# EAGLE library part AD8220 (library ad8220)
JFET Input Instrumentation Amplifier with JFET Input Instrumentation Amplifier with Rail-to-Rail Output in MSOP Package
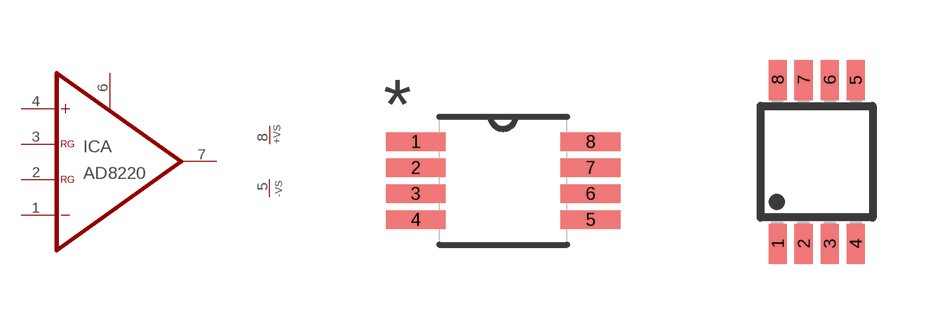
[diagram p0: symbol with the pads of SOP65P490X110-8N; footprints SOP65P490X110-8N, MSOP8]

Designator prefix IC; gates A=OP_INST PWR=PWR

## AD8220ARMZ (MPN: AD8220ARMZ; OC_FARNELL: 1274225; OC_NEWARK: 31M4503; PACKAGE: MSOP-8; SUPPLIER: Analog Devices)  [SOP65P490X110-8N]
1  A:-IN  in
2  A:RG2
3  A:RG1
4  A:+IN  in
5  PWR:-VS  pwr
6  A:REF
7  A:OUT  out
8  PWR:+VS  pwr

## AD8220  [MSOP8]
Pads as for SOP65P490X110-8N

## Footprint SOP65P490X110-8N (pad centres in mm)
smd 1.499 x 0.457: 1 -2.184,0.975; 2 -2.184,0.325; 3 -2.184,-0.325; 4 -2.184,-0.975; 5 2.184,-0.975; 6 2.184,-0.325; 7 2.184,0.325; 8 2.184,0.975

## Footprint MSOP8 (pad centres in mm)
Micro Small Outline Package Grid .65mm
smd 0.45 x 1: 1 -0.975,-2.05; 2 -0.325,-2.05; 3 0.325,-2.05; 4 0.975,-2.05; 5 0.975,2.05; 6 0.325,2.05; 7 -0.325,2.05; 8 -0.975,2.05